# EAGLE library part RES_BUS (library scono)
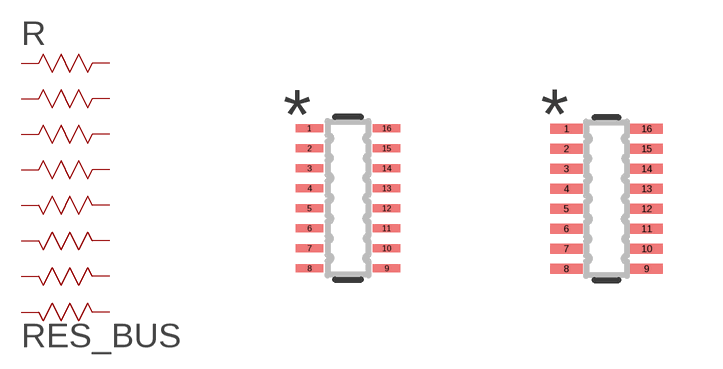
[diagram p63: symbol with the pads of EXB2HV; footprints EXB2HV, EXB2HV-M]

Designator prefix R

## RES_BUS (MANUFACTURER_PART_NUMBER: EXB2HV331JV; VENDOR: Panasonic)  [EXB2HV]
1  1  pas
2  2  pas
3  3  pas
4  4  pas
5  5  pas
6  6  pas
7  7  pas
8  8  pas
9  9  pas
10  10  pas
11  11  pas
12  12  pas
13  13  pas
14  14  pas
15  15  pas
16  16  pas

## RES_BUSEXB2HV-M (MANUFACTURER_PART_NUMBER: EXB2HV331JV; VENDOR: Panasonic)  [EXB2HV-M]
Pads as for EXB2HV

## RES_BUSEXB2HV-L (MANUFACTURER_PART_NUMBER: EXB2HV331JV; VENDOR: Panasonic)  [EXB2HV-L]
Pads as for EXB2HV

## Footprint EXB2HV (pad centres in mm)
smd 0.686 x 0.203: 1 -0.965,1.75; 2 -0.965,1.25; 3 -0.965,0.75; 4 -0.965,0.25; 5 -0.965,-0.25; 6 -0.965,-0.75; 7 -0.965,-1.25; 8 -0.965,-1.75; 9 0.965,-1.75; 10 0.965,-1.25; 11 0.965,-0.75; 12 0.965,-0.25; 13 0.965,0.25; 14 0.965,0.75; 15 0.965,1.25; 16 0.965,1.75

## Footprint EXB2HV-M (pad centres in mm)
smd 0.813 x 0.254: 1 -1.003,1.75; 2 -1.003,1.25; 3 -1.003,0.75; 4 -1.003,0.25; 5 -1.003,-0.25; 6 -1.003,-0.75; 7 -1.003,-1.25; 8 -1.003,-1.75; 9 1.003,-1.75; 10 1.003,-1.25; 11 1.003,-0.75; 12 1.003,-0.25; 13 1.003,0.25; 14 1.003,0.75; 15 1.003,1.25; 16 1.003,1.75

## Footprint EXB2HV-L (pad centres in mm)
smd 0.559 x 0.152: 1 -0.927,1.75; 2 -0.927,1.25; 3 -0.927,0.75; 4 -0.927,0.25; 5 -0.927,-0.25; 6 -0.927,-0.75; 7 -0.927,-1.25; 8 -0.927,-1.75; 9 0.927,-1.75; 10 0.927,-1.25; 11 0.927,-0.75; 12 0.927,-0.25; 13 0.927,0.25; 14 0.927,0.75; 15 0.927,1.25; 16 0.927,1.75